# Altium schematic symbol library Tactile Switches.SchLib: 2 symbols
Pins are listed as number, name and electrical type; pins without a type are passive.

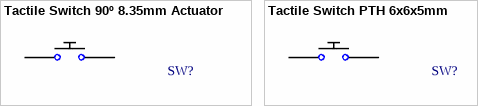
[diagram p0: symbols Tactile Switch 90º 8.35mm Actuator to Tactile Switch PTH 6x6x5mm]

## Tactile Switch 90º 8.35mm Actuator
designator SW?  (value not drawn)
Tactile Switch SPST-NO Side Actuated Through Hole, Right Angle 0.05A 12V; Manufacturer 1: TE Connectivity ALCOSWITCH Switches; Manufacturer 1 PN: 1825910-6; Notes: *
footprint Tactile Switch 90º 8.35mm Actuator (Tactile Switch SPST-NO Side Actuated Through Hole, Right Angle)
pins: 1 A, 2 B

## Tactile Switch PTH 6x6x5mm
designator SW?  (value not drawn)
Tactile Switch PTH 6x6mm outline/5mm High 0.05A 24V; Manufacturer 1: TE Connectivity ALCOSWITCH Switches; Manufacturer 1 PN: 1825910-6; Notes: *
footprint Tactile Switch PTH 6x6x5mm (Tactile Switch PTH 6x6mm outline/5mm High 0.05A 24V)
pins: 1 A, 3 B